# Altium schematic symbol library IC_Max_MAX6820UT+T.SchLib: 1 symbol
Pins are listed as number, name and electrical type; pins without a type are passive.

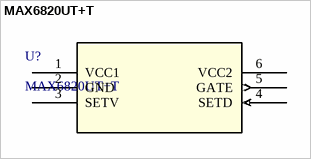
[diagram p0: symbol MAX6820UT+T]

## MAX6820UT+T
designator U?
No Description Available; Vendor: Maxim Integrated Products; Built_By: EMA_UL_Team; SourceLibrary: Maxim_2014-06-20; Manufacturer_Part_Number: MAX6820UT+T; Revision: 1; Copyright: Copyright (C) 2018 Accelerated Designs. All rights reserved; RefDes: RefDes; Type: DEV
footprint 21-0058I_MXM
pins: 1 VCC1 (power), 2 GND (power), 3 SETV, 4 SETD (in), 5 GATE (out), 6 VCC2 (power)